# EAGLE library part MSFW7 (library con-lumberg)
MSF CONNECTOR
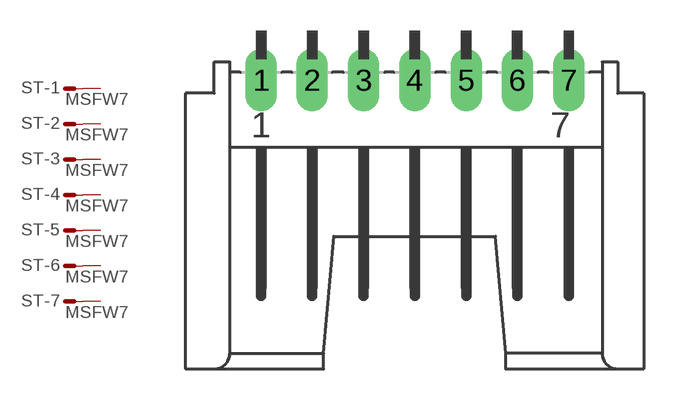
[diagram p1: symbol with the pads of MSFW7; footprint MSFW7]

Designator prefix ST; gates -1=M -2=M -3=M -4=M -5=M -6=M -7=M

## MSFW7 (OC_FARNELL: unknown; OC_NEWARK: unknown)  [MSFW7]
1  -1:S  pas
2  -2:S  pas
3  -3:S  pas
4  -4:S  pas
5  -5:S  pas
6  -6:S  pas
7  -7:S  pas

## Footprint MSFW7 (pad centres in mm)
MSF CONNECTOR
drill 1.016 long: 1 0,1.905; 2 2.489,1.905; 3 5.004,1.905; 4 7.493,1.905; 5 10.008,1.905; 6 12.497,1.905; 7 15.011,1.905